# Altium footprint library Loggerhead.PcbLib: 175 footprints (part 7 of 11)
Each footprint in its own frame and in the unit in brackets; x right, y up, seen from the top. Pads: shape width x height; smd on the part's side, far side on the other; paste and mask are expansions set on the pad; w line width, h text height; cw(c..) or ccw(c..) is an arc to the next point about the centre after c.
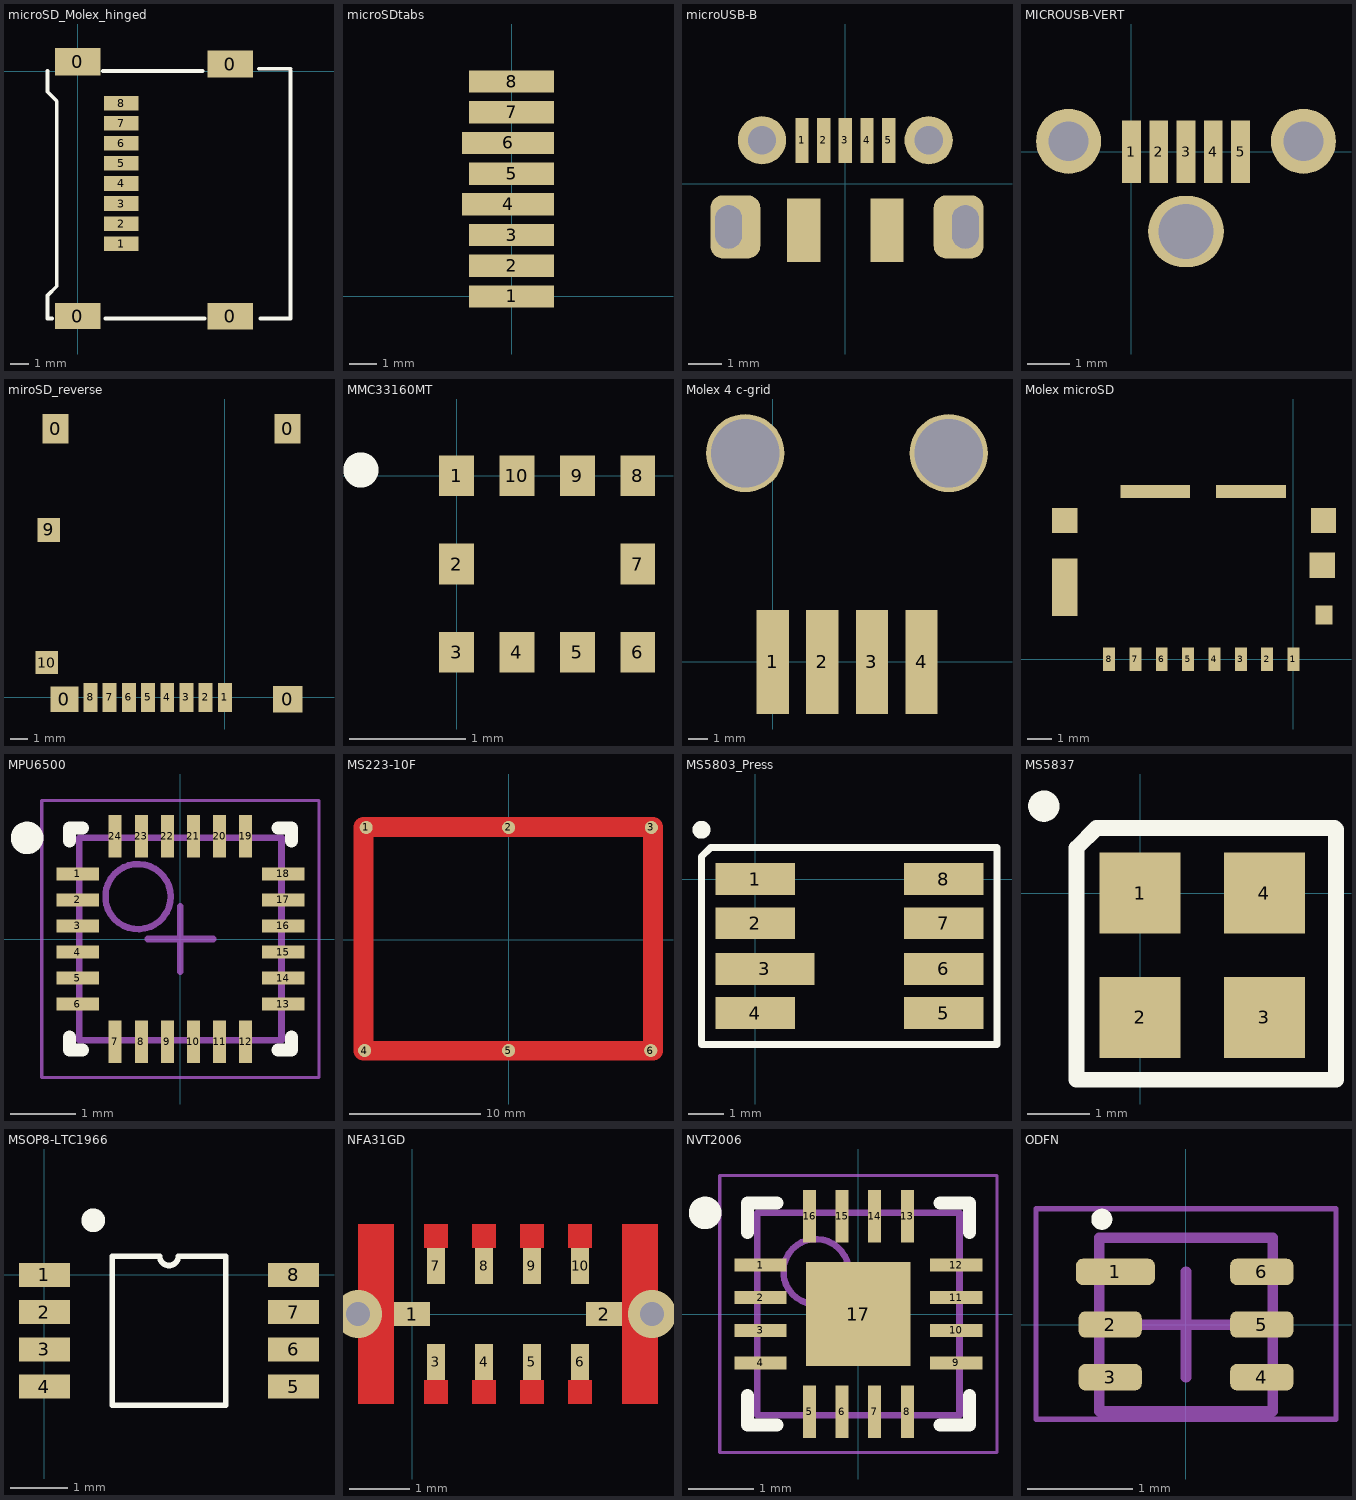
[diagram p6: the footprints below, top view; thin cyan lines are the x and y axes]

## microSD_Molex_hinged [mm]
pads (12):
  rect 2.5x1.45 smd: 0(0,-13.45) 0(8.382,-13.462)
  rect 2.5x1.5 smd: 0(0,0.508) 0(8.382,0.381)
  rect 1.9x0.8 smd: 1(2.4,-9.475) 2(2.4,-8.375) 3(2.4,-7.275) 4(2.4,-6.175) 5(2.4,-5.075) 6(2.4,-3.975) 7(2.4,-2.875) 8(2.4,-1.775)
Top Overlay:
  lines w0.2: -1.651,0 -1.651,-1.143 -1.143,-1.651 -1.143,-11.811 -1.651,-12.319 -1.651,-13.589 -1.397,-13.589 ; 1.397,0 6.858,0 ; 1.524,-13.589 6.985,-13.589 ; 9.941,0.127 11.684,0.127 ; 10.033,-13.589 11.684,-13.589 11.684,0

## microSDtabs [mm]
pads (8):
  rect 3.048x0.8 smd: 1(0,0) 2(0,1.1) 3(0,2.2) 5(0,4.4) 7(0,6.6) 8(0,7.7)
  rect 3.302x0.8 smd: 4(-0.127,3.3) 6(-0.127,5.5)

## microUSB-B [mm]
pads (11):
  rect 0.4x1.35 smd: 1(-1.3,1.3) 2(-0.65,1.3) 3(0,1.3) 4(0.65,1.3) 5(1.3,1.3)
  rrect50% 1.5x1.9 hole 0.8 slot 1.3 at 90 deg copper offset 0.2,0: ""(-3.5,-1.3)
  round 1.45 hole 0.85: ""(-2.5,1.3) ""(2.5,1.3)
  rect 1x1.9 smd: ""(-1.25,-1.4) ""(1.25,-1.4)
  rrect50% 1.5x1.9 hole 0.8 slot 1.3 at 90 deg copper offset -0.2,0: ""(3.6,-1.3)
3D body "microUSB_Molex_1050170001.stp": height 2.68, standoff -0.63, extent -4.1,-4.07 4.1,1.36

## MICROUSB-VERT [mm] "Molex 05133-0011"
height 6.7
pads (8):
  rect 0.45x1.5 smd: 1(0,0) 2(0.65,0) 3(1.3,0) 4(1.95,0) 5(2.6,0)
  round 1.55 hole 0.95: ""(-1.5,0.25) ""(4.1,0.25)
  oval 1.8x1.7 hole 1.3: ""(1.3,-1.9)
3D body "1051330011.stp": height 7.53, standoff -2.27, extent -2.675,-3.05 5.35,1.4

## miroSD_reverse [mm] "5027740891"
height 1.75
pads (14):
  rect 1.5x1.7 smd: 0(-9.7,15.4) 0(3.6,15.4)
  rect 1.6x1.45 smd: 0(-9.2,-0.1)
  rect 1.7x1.5 smd: 0(3.6,-0.1)
  rect 0.8x1.68 smd: 1(0,0) 2(-1.1,0) 3(-2.2,0) 4(-3.3,0) 5(-4.4,0) 6(-5.5,0) 7(-6.6,0) 8(-7.7,0)
  rect 1.29x1.4 smd: 9(-10.1,9.6)
  rect 1.29x1.3 smd: 10(-10.2,2)
3D body "5027740891.stp": height 2.13, standoff 0.33, extent -10.05,-0.1 4.25,15.9

## MMC33160MT [mm] "Memsic magnetometer"
height 1
pads (10):
  rect 0.3x0.35 smd: 1(0,0) 2(0,-0.76) 3(0,-1.52) 4(0.52,-1.52) 5(1.04,-1.52) 6(1.56,-1.52) 7(1.56,-0.76) 8(1.56,0) 9(1.04,0) 10(0.52,0)
Top Overlay:
  circle w0.254: c-0.825,0.05 r0.025

## Molex 4 c-grid [mm]
height 5
pads (6):
  rect 1.65x5.33 smd: 1(0,0) 2(2.54,0) 3(5.08,0) 4(7.62,0)
  round 4 hole 3.5: ""(-1.4,10.69) ""(9.01,10.69)

## Molex microSD [mm] "wicked small microSD"
height 1.45
pads (15):
  rect 0.5x1 smd: 1(0,0) 2(-1.1,0) 3(-2.2,0) 4(-3.3,0) 5(-4.4,0) 6(-5.5,0) 7(-6.6,0) 8(-7.7,0)
  rect 1.05x2.4 smd: ""(-9.55,3)
  rect 1.05x1.05 smd: ""(-9.55,5.8) ""(1.2,3.925) ""(1.25,5.8)
  rect 2.91x0.55 smd: ""(-5.775,7) ""(-1.775,7)
  rect 0.72x0.8 smd: ""(1.275,1.85)

## MPU6500 [mm] "QFN, 24-Leads, Body 3.00x3.00mm, Pitch 0.40mm, Thermal Pad 1.54x1.54mm, IPC Medium Density"
height 0.9
pads (24):
  rect 0.65x0.2 smd: 1(-1.575,1) 2(-1.575,0.6) 3(-1.575,0.2) 4(-1.575,-0.2) 5(-1.575,-0.6) 6(-1.575,-1) 13(1.575,-1) 14(1.575,-0.6) 15(1.575,-0.2) 16(1.575,0.2) 17(1.575,0.6) 18(1.575,1)
  rect 0.2x0.65 smd: 7(-1,-1.575) 8(-0.6,-1.575) 9(-0.2,-1.575) 10(0.2,-1.575) 11(0.6,-1.575) 12(1,-1.575) 19(1,1.575) 20(0.6,1.575) 21(0.2,1.575) 22(-0.2,1.575) 23(-0.6,1.575) 24(-1,1.575)
Top Overlay:
  circle w0.25: c-2.35,1.55 r0.125
  lines w0.2: -1.7,-1.5 -1.7,-1.7 -1.5,-1.7 ; -1.7,1.5 -1.7,1.7 -1.5,1.7 ; 1.5,-1.7 1.7,-1.7 1.7,-1.5 ; 1.5,1.7 1.7,1.7 1.7,1.5
Mechanical 13:
  circle w0.1: c-0.65,0.65 r0.5
  lines w0.1: -1.55,-1.55 -1.55,1.55 1.55,1.55 1.55,-1.55 -1.55,-1.55
Mechanical 15:
  lines w0.05: -2.125,-2.125 -2.125,2.125 2.125,2.125 2.125,-2.125 -2.125,-2.125
  lines w0.1: -0.5,0 0.5,0 ; 0,-0.5 0,0.5
3D body: height 0.9, standoff 0.02, extent -1.85,-1.25 1.25,1.85

## MS223-10F [mm]
height 5
pads (6):
  round 1 all layers, no hole paste-1: 1(-10.825,8.519)
  round 1 all layers, no hole: 2(0,8.519) 3(10.855,8.519) 4(-10.945,-8.431) 5(0,-8.431) 6(10.805,-8.431)
Top Layer:
  lines w1.5: -11.025,-8.45 10.975,-8.45 10.975,8.55 -11.025,8.55 -11.025,-8.45
Top Paste:
  lines w0.5: -11.09,-7.052 -11.09,-0.402 ; -11.05,0.625 -11.05,7.275 ; -8.748,-8.44 -2.098,-8.44 ; -8.748,8.585 -2.098,8.585 ; 1.827,-8.44 8.477,-8.44 ; 1.827,8.585 8.477,8.585 ; 11.035,0.625 11.035,7.275 ; 11.06,-7.052 11.06,-0.402
Top Solder:
  lines w1.6: -11,-8.5 11,-8.5 11,8.5 -11,8.5 -11,-8.5

## MS5803_Press [mm]
pads (8):
  rect 2.25x0.9 smd: 1(0,0) 2(0,-1.25) 4(0,-3.8) 5(5.35,-3.8) 6(5.35,-2.55) 7(5.35,-1.25) 8(5.35,0)
  rect 2.8x0.9 smd: 3(0.275,-2.55)
Top Overlay:
  circle w0.254: c-1.524,1.397 r0.127
  lines w0.2: -1.524,-4.699 -1.524,0.635 -1.27,0.889 6.858,0.889 6.858,-4.699 -1.524,-4.699

## MS5837 [mm]
pads (4):
  rect 1.3x1.3 smd: 1(0,0) 2(0,-2) 3(2,-2) 4(2,0)
Top Overlay:
  circle w0.254: c-1.55,1.4 r0.125
  lines w0.254: -1.025,-3 3.15,-3 3.15,1.025 3.125,1.05 -0.7,1.05 -1.025,0.725 -1.025,-3

## MSOP8-LTC1966 [mm]
pads (8):
  rect 0.889x0.42 smd: 1(0,0) 2(0,-0.65) 3(0,-1.3) 4(0,-1.95) 5(4.341,-1.95) 6(4.341,-1.3) 7(4.341,-0.65) 8(4.341,0)
Top Overlay:
  circle w0.254: c0.85,0.95 r0.079
  lines w0.1: 1.179,-2.275 3.161,-2.275 3.161,0.325 2.333,0.325 cw(c2.17,0.325) 2.008,0.325 1.179,0.325 1.179,-2.275

## NFA31GD [mm]
height 1
pads (10):
  rect 0.6x0.4 smd: 1(0,0) 2(3.2,0)
  rect 0.3x0.6 smd: 3(0.4,-0.8) 4(1.2,-0.8) 5(2,-0.8) 6(2.8,-0.8) 7(0.4,0.8) 8(1.2,0.8) 9(2,0.8) 10(2.8,0.8)
via 4,0 diameter 0.8 hole 0.4
via -0.9,0 diameter 0.8 hole 0.4
Top Layer:
  rectangle: 2.6,-1.5 3,-1.1
  rectangle: 1.8,-1.5 2.2,-1.1
  rectangle: 1,-1.5 1.4,-1.1
  rectangle: 0.2,-1.5 0.6,-1.1
  rectangle: 2.6,1.1 3,1.5
  rectangle: 1.8,1.1 2.2,1.5
  rectangle: 1,1.1 1.4,1.5
  rectangle: 0.2,1.1 0.6,1.5
  rectangle: -0.9,-1.5 -0.3,1.5
  rectangle: 3.5,-1.5 4.1,1.5
Top Solder:
  rectangle: 2.6,-1.5 3,-1.1
  rectangle: 1.8,-1.5 2.2,-1.1
  rectangle: 1,-1.5 1.4,-1.1
  rectangle: 0.2,-1.5 0.6,-1.1
  rectangle: 2.6,1.1 3,1.5
  rectangle: 1.8,1.1 2.2,1.5
  rectangle: 1,1.1 1.4,1.5
  rectangle: 0.2,1.1 0.6,1.5
  rectangle: -0.9,-1.5 -0.3,1.5
  rectangle: 3.5,-1.5 4.1,1.5

## NVT2006 [mm] "QFN, 16-Leads, Body 3.00x3.00mm, Pitch 0.50mm, Thermal Pad 1.60x1.60mm, IPC Medium Density"
height 1
pads (17):
  rect 0.8x0.2 smd: 1(-1.5,0.75) 2(-1.5,0.25) 3(-1.5,-0.25) 4(-1.5,-0.75) 9(1.5,-0.75) 10(1.5,-0.25) 11(1.5,0.25) 12(1.5,0.75)
  rect 0.2x0.8 smd: 5(-0.75,-1.5) 6(-0.25,-1.5) 7(0.25,-1.5) 8(0.75,-1.5) 13(0.75,1.5) 14(0.25,1.5) 15(-0.25,1.5) 16(-0.75,1.5)
  rect 1.6x1.6 smd paste-0.5: 17(0,0)
Top Overlay:
  circle w0.25: c-2.35,1.55 r0.125
  lines w0.2: -1.7,-1.25 -1.7,-1.7 -1.25,-1.7 ; -1.7,1.25 -1.7,1.7 -1.25,1.7 ; 1.25,-1.7 1.7,-1.7 1.7,-1.25 ; 1.25,1.7 1.7,1.7 1.7,1.25
Mechanical 13:
  circle w0.1: c-0.65,0.65 r0.5
  lines w0.1: -1.55,-1.55 -1.55,1.55 1.55,1.55 1.55,-1.55 -1.55,-1.55
Mechanical 15:
  lines w0.05: -2.125,-2.125 -2.125,2.125 2.125,2.125 2.125,-2.125 -2.125,-2.125
  lines w0.1: -0.5,0 0.5,0 ; 0,-0.5 0,0.5
3D body: height 1, standoff 0.03, extent -1.55,-1.55 1.55,1.55

## ODFN [mm]
height 0.7
pads (6):
  rrect50% 0.75x0.25 smd: 1(-0.67,0.5)
  rrect50% 0.6x0.25 smd: 2(-0.72,0) 3(-0.72,-0.5) 4(0.72,-0.5) 5(0.72,0) 6(0.72,0.5)
Top Overlay:
  circle w0.1: c-0.8,1 r0.05
Mechanical 13:
  lines w0.1: -0.825,-0.825 -0.825,0.825 0.825,0.825 0.825,-0.825 -0.825,-0.825
Mechanical 15:
  lines w0.05: -1.425,-0.9 -1.425,1.1 1.425,1.1 1.425,-0.9 -1.425,-0.9
  lines w0.1: -0.5,0 0.5,0 ; 0,-0.5 0,0.5
3D body: height 0.7, standoff 0.02, extent -0.825,-0.825 0.825,0.825